# Altium footprint library MODULE_102010428.PcbLib: 1 footprints
Each footprint in its own frame and in the unit in brackets; x right, y up, seen from the top. Pads: shape width x height; smd on the part's side, far side on the other; paste and mask are expansions set on the pad; w line width, h text height; cw(c..) or ccw(c..) is an arc to the next point about the centre after c.
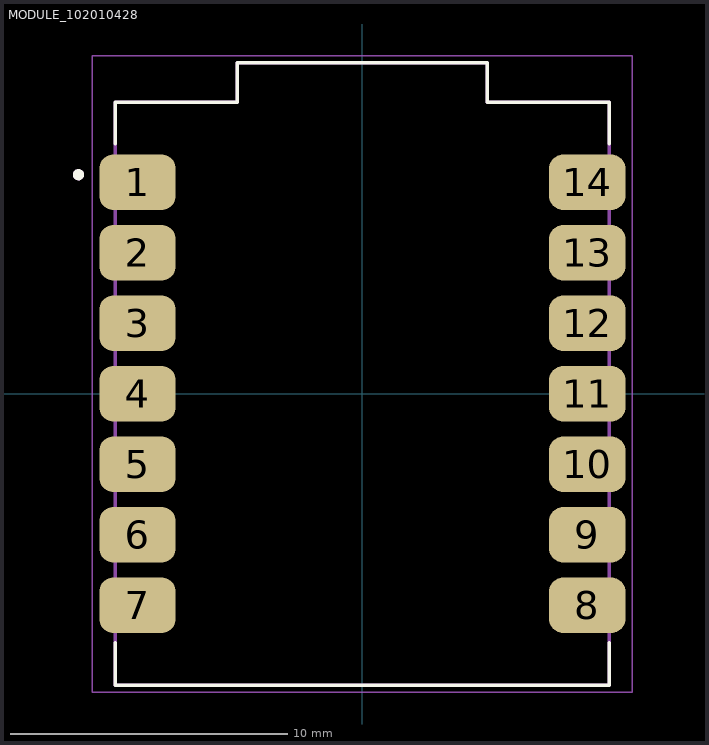
[diagram p0: the footprint, top view; thin cyan lines are the x and y axes]

## MODULE_102010428 [mm]
pads (14):
  rrect50% 2.75x2 smd: 1(-8.1,7.62) 2(-8.1,5.08) 3(-8.1,2.54) 4(-8.1,0) 5(-8.1,-2.54) 6(-8.1,-5.08) 7(-8.1,-7.62) 8(8.1,-7.62) 9(8.1,-5.08) 10(8.1,-2.54) 11(8.1,0) 12(8.1,2.54) 13(8.1,5.08) 14(8.1,7.62)
Top Overlay:
  circle w0.2: c-10.229,7.891 r0.1
  lines w0.127: -8.9,-8.97 -8.9,-10.5 8.9,-10.5 8.9,-8.97 ; -8.9,9 -8.9,10.5 -4.5,10.5 -4.5,11.9 ; -4.5,11.924 4.495,11.924 ; 4.5,11.9 4.5,10.5 8.9,10.5 8.9,9
Mechanical 13:
  circle w0.2: c-10.229,7.891 r0.1
  lines w0.127: -8.9,-10.5 -8.9,10.5 -4.5,10.5 -4.5,11.924 4.5,11.924 4.5,10.5 8.9,10.5 8.9,-10.5 -8.9,-10.5
Mechanical 15:
  lines w0.05: -9.725,-10.75 -9.725,12.174 9.725,12.174 9.725,-10.75 -9.725,-10.75
3D body "step_temp.STEP": height 4.41, standoff 0, extent -8.75,-10.5 8.75,11.5